# Altium footprint library PcbLib_connector_pinheader.PcbLib: 1 footprints
Each footprint in its own frame and in the unit in brackets; x right, y up, seen from the top. Pads: shape width x height; smd on the part's side, far side on the other; paste and mask are expansions set on the pad; w line width, h text height; cw(c..) or ccw(c..) is an arc to the next point about the centre after c.
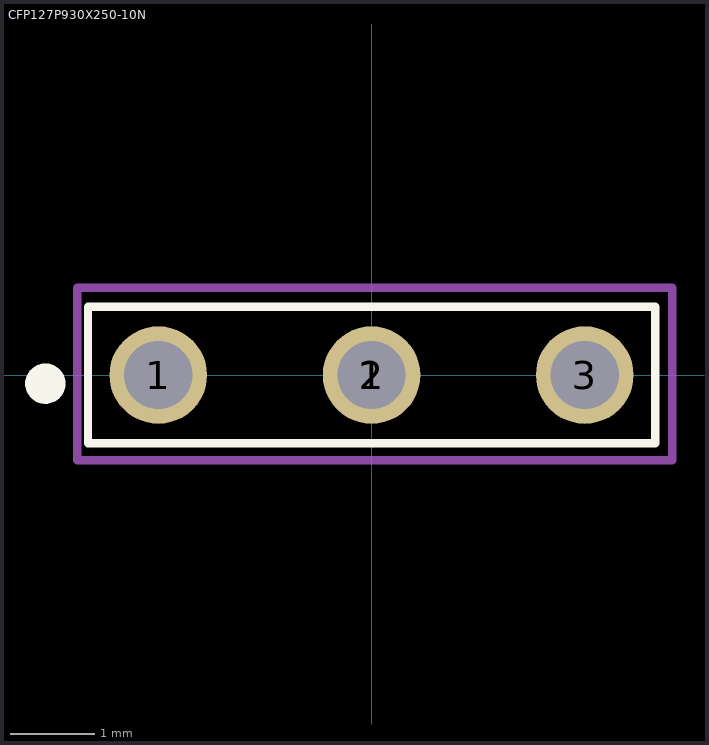
[diagram p0: the footprint, top view; thin cyan lines are the x and y axes]

## CFP127P930X250-10N [mil] "CFP, 10-Leads, Body 7.36x5.08mm (max), Pitch 1.27mm, IPC Medium Density"
height 98.43
pads (4):
  round 45.78 hole 32: 1(-100,0) 1(0,0) 2(0,0) 3(100,0)
Top Overlay:
  circle w10: c-153,-4 r4.47
  lines w3.94: -133,-32 133,-32 133,32 -133,32 -133,-32
Mechanical29 (Mech29):
  lines w3.94: -138,-40 141,-40 141,41 -138,41 -138,-40
3D body "TS-103-T-A-1.stp": height 326.5, standoff -203.5, extent -154,-50 154,50